# EAGLE library part IC_LTC4067 (library 0kaz)
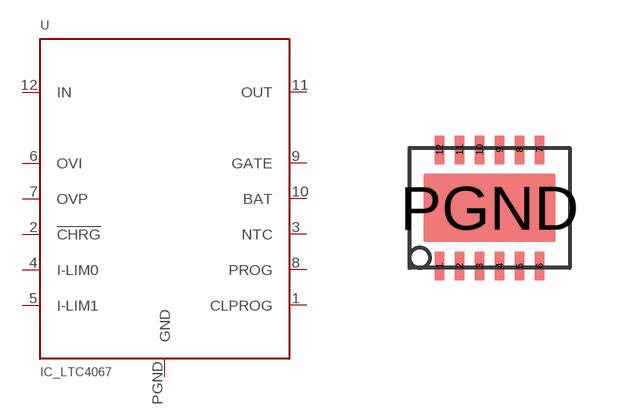
[diagram p6: symbol with the pads of DFN-12; footprint DFN-12]

Designator prefix -

## IC_LTC4067  [DFN-12]
1  CLPROG
2  !CHRG!
3  NTC
4  I-LIM0
5  I-LIM1
6  OVI
7  OVP
8  PROG
9  GATE
10  BAT
11  OUT
12  IN
PGND  GND

## Footprint DFN-12 (pad centres in mm)
smd 0.25 x 0.7: 1 -1.25,-1.45; 2 -0.75,-1.45; 3 -0.25,-1.45; 4 0.25,-1.45; 5 0.75,-1.45; 6 1.25,-1.45; 7 1.25,1.45; 8 0.75,1.45; 9 0.25,1.45; 10 -0.25,1.45; 11 -0.75,1.45; 12 -1.25,1.45
smd 3.3 x 1.7: PGND 0,0